# EAGLE library part TPS6273X (library Chadgra-PowerIC)
TPS6273X Step Down Converter with Bypass Mode for Ultra Low Power Wireless Applications
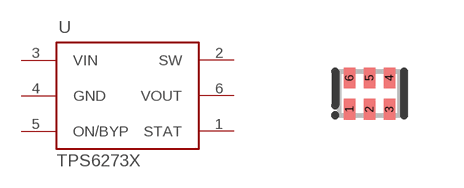
[diagram p0: symbol with the pads of 6-SON; footprint 6-SON]

Designator prefix -

## TPS6273X  [6-SON]
1  STAT
2  SW
3  VIN
4  GND
5  ON/BYP
6  VOUT

## Footprint 6-SON (pad centres in mm)
smd 0.292 x 0.52: 1 -0.5,-0.39; 2 0,-0.39; 3 0.5,-0.39; 4 0.5,0.39; 5 0,0.39; 6 -0.5,0.39